# Altium footprint library switch.PcbLib: 36 footprints (part 2 of 3)
Each footprint in its own frame and in the unit in brackets; x right, y up, seen from the top. Pads: shape width x height; smd on the part's side, far side on the other; paste and mask are expansions set on the pad; w line width, h text height; cw(c..) or ccw(c..) is an arc to the next point about the centre after c.
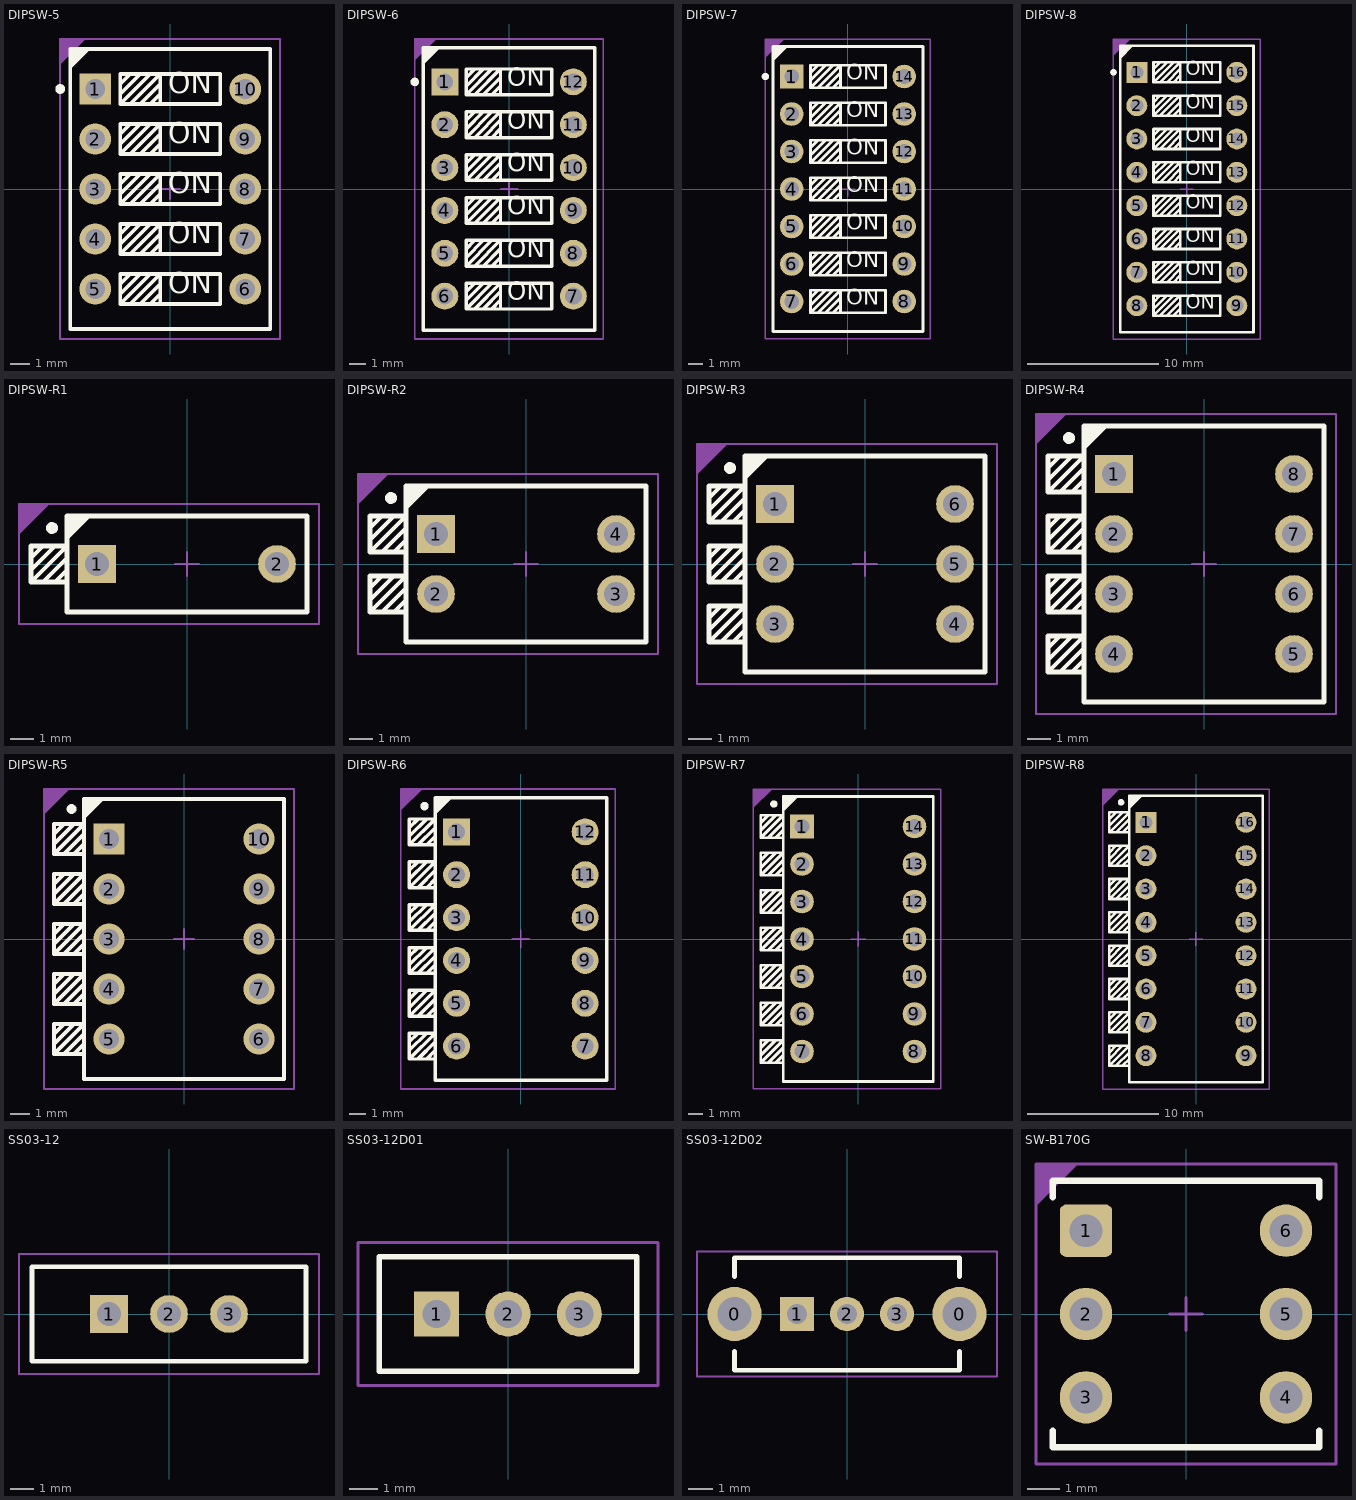
[diagram p1: the footprints below, top view; thin cyan lines are the x and y axes]

## DIPSW-5 [mm]
pads (10):
  rect 1.6x1.6 hole 1: 1(-3.81,5.08)
  round 1.6 hole 1: 2(-3.81,2.54) 3(-3.81,0) 4(-3.81,-2.54) 5(-3.81,-5.08) 6(3.81,-5.08) 7(3.81,-2.54) 8(3.81,0) 9(3.81,2.54) 10(3.81,5.08)
Top Overlay:
  circle w0.25: c-5.588,5.08 r0.125
  region: -5.08,6.096 -5.08,7.112 -4.064,7.112
  lines w0.2: -2.54,-5.334 -1.524,-4.318 ; -2.54,-4.826 -2.032,-4.318 ; -2.54,-2.794 -1.524,-1.778 ; -2.54,-2.286 -2.032,-1.778 ; -2.54,-0.254 -1.524,0.762 ; -2.54,0.254 -2.032,0.762 ; -2.54,2.286 -1.524,3.302 ; -2.54,2.794 -2.032,3.302 ; -2.54,4.826 -1.524,5.842 ; -2.54,5.334 -2.032,5.842 ; -2.032,-5.842 -0.508,-4.318 -0.508,-5.842 ; -2.032,-3.302 -0.508,-1.778 -0.508,-3.302 ; -2.032,-0.762 -0.508,0.762 -0.508,-0.762 ; -2.032,1.778 -0.508,3.302 -0.508,1.778 ; -2.032,4.318 -0.508,5.842 -0.508,4.318 ; -1.524,-5.842 -0.508,-4.826 ; -1.524,-3.302 -0.508,-2.286 ; -1.524,-0.762 -0.508,0.254 ; -1.524,1.778 -0.508,2.794 ; -1.524,4.318 -0.508,5.334 ; -1.016,-5.842 -0.508,-5.334 ; -1.016,-4.318 -2.54,-5.842 ; -1.016,-3.302 -0.508,-2.794 ; -1.016,-1.778 -2.54,-3.302 ; -1.016,-0.762 -0.508,-0.254 ; -1.016,0.762 -2.54,-0.762 ; -1.016,1.778 -0.508,2.286 ; -1.016,3.302 -2.54,1.778 ; -1.016,4.318 -0.508,4.826 ; -1.016,5.842 -2.54,4.318 ; -2.54,-5.842 -2.54,-4.318 2.54,-4.318 2.54,-5.842 -2.54,-5.842 ; -2.54,-3.302 -2.54,-1.778 2.54,-1.778 2.54,-3.302 -2.54,-3.302 ; -2.54,-0.762 -2.54,0.762 2.54,0.762 2.54,-0.762 -2.54,-0.762 ; -2.54,1.778 -2.54,3.302 2.54,3.302 2.54,1.778 -2.54,1.778 ; -2.54,4.318 -2.54,5.842 2.54,5.842 2.54,4.318 -2.54,4.318 ; -5.08,-7.112 5.08,-7.112 5.08,7.112 -5.08,7.112 -5.08,-7.112
  text "ON" at -0.098,4.5 h1.8
  text "ON" at -0.098,1.96 h1.8
  text "ON" at -0.098,-0.58 h1.8
  text "ON" at -0.098,-3.12 h1.8
  text "ON" at -0.098,-5.66 h1.8
Mechanical 13:
  region: -5.588,7.62 -5.588,6.35 -4.318,7.62
  lines w0.1: -5.588,-7.62 5.588,-7.62 5.588,7.62 -5.588,7.62 -5.588,-7.62
  text ".Designator" at -3.23,-0.92 h2
Mechanical 15:
  lines w0.05: -5.588,-7.62 5.588,-7.62 5.588,7.62 -5.588,7.62 -5.588,-7.62
  lines w0.1: -0.5,0 0.5,0 ; 0,-0.5 0,0.5
3D body: height 7, standoff 6, extent -2.54,4.318 -0.508,5.842
3D body: height 7, standoff 6, extent -2.54,1.778 -0.508,3.302
3D body: height 7, standoff 6, extent -2.54,-0.762 -0.508,0.762
3D body: height 7, standoff 6, extent -2.54,-3.302 -0.508,-1.778
3D body: height 7, standoff 6, extent -2.54,-5.842 -0.508,-4.318
3D body: height 6, standoff 0.5, extent -5.08,-7.112 5.08,7.112

## DIPSW-6 [mm]
pads (12):
  rect 1.6x1.6 hole 1: 1(-3.81,6.35)
  round 1.6 hole 1: 2(-3.81,3.81) 3(-3.81,1.27) 4(-3.81,-1.27) 5(-3.81,-3.81) 6(-3.81,-6.35) 7(3.81,-6.35) 8(3.81,-3.81) 9(3.81,-1.27) 10(3.81,1.27) 11(3.81,3.81) 12(3.81,6.35)
Top Overlay:
  circle w0.25: c-5.588,6.35 r0.125
  region: -5.08,7.366 -5.08,8.382 -4.064,8.382
  lines w0.2: -2.54,-6.604 -1.524,-5.588 ; -2.54,-6.096 -2.032,-5.588 ; -2.54,-4.064 -1.524,-3.048 ; -2.54,-3.556 -2.032,-3.048 ; -2.54,-1.524 -1.524,-0.508 ; -2.54,-1.016 -2.032,-0.508 ; -2.54,1.016 -1.524,2.032 ; -2.54,1.524 -2.032,2.032 ; -2.54,3.556 -1.524,4.572 ; -2.54,4.064 -2.032,4.572 ; -2.54,6.096 -1.524,7.112 ; -2.54,6.604 -2.032,7.112 ; -2.032,-7.112 -0.508,-5.588 -0.508,-7.112 ; -2.032,-4.572 -0.508,-3.048 -0.508,-4.572 ; -2.032,-2.032 -0.508,-0.508 -0.508,-2.032 ; -2.032,0.508 -0.508,2.032 -0.508,0.508 ; -2.032,3.048 -0.508,4.572 -0.508,3.048 ; -2.032,5.588 -0.508,7.112 -0.508,5.588 ; -1.524,-7.112 -0.508,-6.096 ; -1.524,-4.572 -0.508,-3.556 ; -1.524,-2.032 -0.508,-1.016 ; -1.524,0.508 -0.508,1.524 ; -1.524,3.048 -0.508,4.064 ; -1.524,5.588 -0.508,6.604 ; -1.016,-7.112 -0.508,-6.604 ; -1.016,-5.588 -2.54,-7.112 ; -1.016,-4.572 -0.508,-4.064 ; -1.016,-3.048 -2.54,-4.572 ; -1.016,-2.032 -0.508,-1.524 ; -1.016,-0.508 -2.54,-2.032 ; -1.016,0.508 -0.508,1.016 ; -1.016,2.032 -2.54,0.508 ; -1.016,3.048 -0.508,3.556 ; -1.016,4.572 -2.54,3.048 ; -1.016,5.588 -0.508,6.096 ; -1.016,7.112 -2.54,5.588 ; -2.54,-7.112 -2.54,-5.588 2.54,-5.588 2.54,-7.112 -2.54,-7.112 ; -2.54,-4.572 -2.54,-3.048 2.54,-3.048 2.54,-4.572 -2.54,-4.572 ; -2.54,-2.032 -2.54,-0.508 2.54,-0.508 2.54,-2.032 -2.54,-2.032 ; -2.54,0.508 -2.54,2.032 2.54,2.032 2.54,0.508 -2.54,0.508 ; -2.54,3.048 -2.54,4.572 2.54,4.572 2.54,3.048 -2.54,3.048 ; -2.54,5.588 -2.54,7.112 2.54,7.112 2.54,5.588 -2.54,5.588 ; -5.08,-8.382 5.08,-8.382 5.08,8.382 -5.08,8.382 -5.08,-8.382
  text "ON" at -0.098,5.77 h1.8
  text "ON" at -0.098,3.23 h1.8
  text "ON" at -0.098,0.69 h1.8
  text "ON" at -0.098,-1.85 h1.8
  text "ON" at -0.098,-4.39 h1.8
  text "ON" at -0.098,-6.93 h1.8
Mechanical 13:
  region: -5.588,8.89 -5.588,7.62 -4.318,8.89
  lines w0.1: -5.588,-8.89 5.588,-8.89 5.588,8.89 -5.588,8.89 -5.588,-8.89
  text ".Designator" at -3.3,-0.95 h2
Mechanical 15:
  lines w0.05: -5.588,-8.89 5.588,-8.89 5.588,8.89 -5.588,8.89 -5.588,-8.89
  lines w0.1: -0.5,0 0.5,0 ; 0,-0.5 0,0.5
3D body: height 7, standoff 6, extent -2.54,5.588 -0.508,7.112
3D body: height 7, standoff 6, extent -2.54,3.048 -0.508,4.572
3D body: height 7, standoff 6, extent -2.54,0.508 -0.508,2.032
3D body: height 7, standoff 6, extent -2.54,-2.032 -0.508,-0.508
3D body: height 7, standoff 6, extent -2.54,-4.572 -0.508,-3.048
3D body: height 7, standoff 6, extent -2.54,-7.112 -0.508,-5.588
3D body: height 6, standoff 0.5, extent -5.08,-8.382 5.08,8.382

## DIPSW-7 [mm]
pads (14):
  rect 1.6x1.6 hole 1: 1(-3.81,7.62)
  round 1.6 hole 1: 2(-3.81,5.08) 3(-3.81,2.54) 4(-3.81,0) 5(-3.81,-2.54) 6(-3.81,-5.08) 7(-3.81,-7.62) 8(3.81,-7.62) 9(3.81,-5.08) 10(3.81,-2.54) 11(3.81,0) 12(3.81,2.54) 13(3.81,5.08) 14(3.81,7.62)
Top Overlay:
  circle w0.25: c-5.588,7.62 r0.125
  region: -5.08,8.636 -5.08,9.652 -4.064,9.652
  lines w0.2: -2.54,-7.874 -1.524,-6.858 ; -2.54,-7.366 -2.032,-6.858 ; -2.54,-5.334 -1.524,-4.318 ; -2.54,-4.826 -2.032,-4.318 ; -2.54,-2.794 -1.524,-1.778 ; -2.54,-2.286 -2.032,-1.778 ; -2.54,-0.254 -1.524,0.762 ; -2.54,0.254 -2.032,0.762 ; -2.54,2.286 -1.524,3.302 ; -2.54,2.794 -2.032,3.302 ; -2.54,4.826 -1.524,5.842 ; -2.54,5.334 -2.032,5.842 ; -2.54,7.366 -1.524,8.382 ; -2.54,7.874 -2.032,8.382 ; -2.032,-8.382 -0.508,-6.858 -0.508,-8.382 ; -2.032,-5.842 -0.508,-4.318 -0.508,-5.842 ; -2.032,-3.302 -0.508,-1.778 -0.508,-3.302 ; -2.032,-0.762 -0.508,0.762 -0.508,-0.762 ; -2.032,1.778 -0.508,3.302 -0.508,1.778 ; -2.032,4.318 -0.508,5.842 -0.508,4.318 ; -2.032,6.858 -0.508,8.382 -0.508,6.858 ; -1.524,-8.382 -0.508,-7.366 ; -1.524,-5.842 -0.508,-4.826 ; -1.524,-3.302 -0.508,-2.286 ; -1.524,-0.762 -0.508,0.254 ; -1.524,1.778 -0.508,2.794 ; -1.524,4.318 -0.508,5.334 ; -1.524,6.858 -0.508,7.874 ; -1.016,-8.382 -0.508,-7.874 ; -1.016,-6.858 -2.54,-8.382 ; -1.016,-5.842 -0.508,-5.334 ; -1.016,-4.318 -2.54,-5.842 ; -1.016,-3.302 -0.508,-2.794 ; -1.016,-1.778 -2.54,-3.302 ; -1.016,-0.762 -0.508,-0.254 ; -1.016,0.762 -2.54,-0.762 ; -1.016,1.778 -0.508,2.286 ; -1.016,3.302 -2.54,1.778 ; -1.016,4.318 -0.508,4.826 ; -1.016,5.842 -2.54,4.318 ; -1.016,6.858 -0.508,7.366 ; -1.016,8.382 -2.54,6.858 ; -2.54,-8.382 2.54,-8.382 2.54,-6.858 -2.54,-6.858 -2.54,-8.382 ; -2.54,-5.842 2.54,-5.842 2.54,-4.318 -2.54,-4.318 -2.54,-5.842 ; -2.54,-3.302 2.54,-3.302 2.54,-1.778 -2.54,-1.778 -2.54,-3.302 ; -2.54,-0.762 2.54,-0.762 2.54,0.762 -2.54,0.762 -2.54,-0.762 ; -2.54,1.778 2.54,1.778 2.54,3.302 -2.54,3.302 -2.54,1.778 ; -2.54,4.318 2.54,4.318 2.54,5.842 -2.54,5.842 -2.54,4.318 ; -2.54,6.858 2.54,6.858 2.54,8.382 -2.54,8.382 -2.54,6.858 ; -5.08,-9.652 -5.08,9.652 5.08,9.652 5.08,-9.652 -5.08,-9.652
  text "ON" at -0.098,-8.2 h1.8
  text "ON" at -0.098,-5.66 h1.8
  text "ON" at -0.098,-3.12 h1.8
  text "ON" at -0.098,-0.58 h1.8
  text "ON" at -0.098,1.96 h1.8
  text "ON" at -0.098,4.5 h1.8
  text "ON" at -0.098,7.04 h1.8
Mechanical 13:
  region: -5.588,10.16 -5.588,8.89 -4.318,10.16
  lines w0.1: -5.588,-10.16 -5.588,10.16 5.588,10.16 5.588,-10.16 -5.588,-10.16
  text ".Designator" at -3.3,-0.94 h2
Mechanical 15:
  lines w0.05: -5.588,-10.16 -5.588,10.16 5.588,10.16 5.588,-10.16 -5.588,-10.16
  lines w0.1: -0.5,0 0.5,0 ; 0,-0.5 0,0.5
3D body: height 7, standoff 6, extent -2.54,-8.382 -0.508,-6.858
3D body: height 7, standoff 6, extent -2.54,-5.842 -0.508,-4.318
3D body: height 7, standoff 6, extent -2.54,-3.302 -0.508,-1.778
3D body: height 7, standoff 6, extent -2.54,-0.762 -0.508,0.762
3D body: height 7, standoff 6, extent -2.54,1.778 -0.508,3.302
3D body: height 7, standoff 6, extent -2.54,4.318 -0.508,5.842
3D body: height 7, standoff 6, extent -2.54,6.858 -0.508,8.382
3D body: height 6, standoff 0.5, extent -5.08,-9.652 5.08,9.652

## DIPSW-8 [mm]
pads (16):
  rect 1.6x1.6 hole 1: 1(-3.81,8.89)
  round 1.6 hole 1: 2(-3.81,6.35) 3(-3.81,3.81) 4(-3.81,1.27) 5(-3.81,-1.27) 6(-3.81,-3.81) 7(-3.81,-6.35) 8(-3.81,-8.89) 9(3.81,-8.89) 10(3.81,-6.35) 11(3.81,-3.81) 12(3.81,-1.27) 13(3.81,1.27) 14(3.81,3.81) 15(3.81,6.35) 16(3.81,8.89)
Top Overlay:
  circle w0.25: c-5.588,8.89 r0.125
  region: -5.08,9.906 -5.08,10.922 -4.064,10.922
  lines w0.2: -2.54,-9.144 -1.524,-8.128 ; -2.54,-8.636 -2.032,-8.128 ; -2.54,-6.604 -1.524,-5.588 ; -2.54,-6.096 -2.032,-5.588 ; -2.54,-4.064 -1.524,-3.048 ; -2.54,-3.556 -2.032,-3.048 ; -2.54,-1.524 -1.524,-0.508 ; -2.54,-1.016 -2.032,-0.508 ; -2.54,1.016 -1.524,2.032 ; -2.54,1.524 -2.032,2.032 ; -2.54,3.556 -1.524,4.572 ; -2.54,4.064 -2.032,4.572 ; -2.54,6.096 -1.524,7.112 ; -2.54,6.604 -2.032,7.112 ; -2.54,8.636 -1.524,9.652 ; -2.54,9.144 -2.032,9.652 ; -2.032,-9.652 -0.508,-8.128 -0.508,-9.652 ; -2.032,-7.112 -0.508,-5.588 -0.508,-7.112 ; -2.032,-4.572 -0.508,-3.048 -0.508,-4.572 ; -2.032,-2.032 -0.508,-0.508 -0.508,-2.032 ; -2.032,0.508 -0.508,2.032 -0.508,0.508 ; -2.032,3.048 -0.508,4.572 -0.508,3.048 ; -2.032,5.588 -0.508,7.112 -0.508,5.588 ; -2.032,8.128 -0.508,9.652 -0.508,8.128 ; -1.524,-9.652 -0.508,-8.636 ; -1.524,-7.112 -0.508,-6.096 ; -1.524,-4.572 -0.508,-3.556 ; -1.524,-2.032 -0.508,-1.016 ; -1.524,0.508 -0.508,1.524 ; -1.524,3.048 -0.508,4.064 ; -1.524,5.588 -0.508,6.604 ; -1.524,8.128 -0.508,9.144 ; -1.016,-9.652 -0.508,-9.144 ; -1.016,-8.128 -2.54,-9.652 ; -1.016,-7.112 -0.508,-6.604 ; -1.016,-5.588 -2.54,-7.112 ; -1.016,-4.572 -0.508,-4.064 ; -1.016,-3.048 -2.54,-4.572 ; -1.016,-2.032 -0.508,-1.524 ; -1.016,-0.508 -2.54,-2.032 ; -1.016,0.508 -0.508,1.016 ; -1.016,2.032 -2.54,0.508 ; -1.016,3.048 -0.508,3.556 ; -1.016,4.572 -2.54,3.048 ; -1.016,5.588 -0.508,6.096 ; -1.016,7.112 -2.54,5.588 ; -1.016,8.128 -0.508,8.636 ; -1.016,9.652 -2.54,8.128 ; -2.54,-9.652 -2.54,-8.128 2.54,-8.128 2.54,-9.652 -2.54,-9.652 ; -2.54,-7.112 -2.54,-5.588 2.54,-5.588 2.54,-7.112 -2.54,-7.112 ; -2.54,-4.572 -2.54,-3.048 2.54,-3.048 2.54,-4.572 -2.54,-4.572 ; -2.54,-2.032 -2.54,-0.508 2.54,-0.508 2.54,-2.032 -2.54,-2.032 ; -2.54,0.508 -2.54,2.032 2.54,2.032 2.54,0.508 -2.54,0.508 ; -2.54,3.048 -2.54,4.572 2.54,4.572 2.54,3.048 -2.54,3.048 ; -2.54,5.588 -2.54,7.112 2.54,7.112 2.54,5.588 -2.54,5.588 ; -2.54,8.128 2.54,8.128 2.54,9.652 -2.54,9.652 -2.54,8.128 ; -5.08,-10.922 5.08,-10.922 5.08,10.922 -5.08,10.922 -5.08,-10.922
  text "ON" at -0.098,8.31 h1.8
  text "ON" at -0.098,5.77 h1.8
  text "ON" at -0.098,3.23 h1.8
  text "ON" at -0.098,0.69 h1.8
  text "ON" at -0.098,-1.85 h1.8
  text "ON" at -0.098,-4.39 h1.8
  text "ON" at -0.098,-6.93 h1.8
  text "ON" at -0.098,-9.47 h1.8
Mechanical 13:
  region: -5.588,11.43 -5.588,10.16 -4.318,11.43
  lines w0.1: -5.588,-11.43 5.588,-11.43 5.588,11.43 -5.588,11.43 -5.588,-11.43
  text ".Designator" at -3.34,-0.94 h2
Mechanical 15:
  lines w0.05: -5.588,-11.43 5.588,-11.43 5.588,11.43 -5.588,11.43 -5.588,-11.43
  lines w0.1: -0.5,0 0.5,0 ; 0,-0.5 0,0.5
3D body: height 6, standoff 0.5, extent -5.08,-10.922 5.08,10.922
3D body: height 7, standoff 6, extent -2.54,8.128 -0.508,9.652
3D body: height 7, standoff 6, extent -2.54,5.588 -0.508,7.112
3D body: height 7, standoff 6, extent -2.54,3.048 -0.508,4.572
3D body: height 7, standoff 6, extent -2.54,0.508 -0.508,2.032
3D body: height 7, standoff 6, extent -2.54,-2.032 -0.508,-0.508
3D body: height 7, standoff 6, extent -2.54,-4.572 -0.508,-3.048
3D body: height 7, standoff 6, extent -2.54,-7.112 -0.508,-5.588
3D body: height 7, standoff 6, extent -2.54,-9.652 -0.508,-8.128

## DIPSW-R1 [mm]
pads (2):
  rect 1.6x1.6 hole 1: 1(-3.81,0)
  round 1.6 hole 1: 2(3.81,0)
Top Overlay:
  circle w0.25: c-5.713,1.524 r0.125
  region: -5.08,1.016 -5.08,2.032 -4.064,2.032
  lines w0.2: -6.604,-0.254 -5.588,0.762 ; -6.604,0.254 -6.096,0.762 ; -6.096,-0.762 -5.08,0.254 ; -5.588,-0.762 -5.08,-0.254 ; -5.08,-0.762 -6.604,-0.762 ; -6.604,-0.762 -6.604,0.762 -5.08,0.762 -6.604,-0.762 ; -5.08,-2.032 -5.08,2.032 5.08,2.032 5.08,-2.032 -5.08,-2.032
Mechanical 13:
  region: -7.112,2.54 -7.112,1.27 -5.842,2.54
  lines w0.1: -7.112,-2.54 -7.112,2.54 5.588,2.54 5.588,-2.54 -7.112,-2.54
  text ".Designator" at -3.32,-0.95 h2
Mechanical 15:
  lines w0.05: -7.112,-2.54 -7.112,2.54 5.588,2.54 5.588,-2.54 -7.112,-2.54
  lines w0.1: -0.5,0 0.5,0 ; 0,-0.5 0,0.5
3D body: height 9, standoff 0.5, extent -5.08,-2.032 5.08,2.032
3D body: height 8.5, standoff 7, extent -6.604,-0.762 -5.08,0.762

## DIPSW-R2 [mm]
pads (4):
  rect 1.6x1.6 hole 1: 1(-3.81,1.27)
  round 1.6 hole 1: 2(-3.81,-1.27) 3(3.81,-1.27) 4(3.81,1.27)
Top Overlay:
  circle w0.25: c-5.713,2.794 r0.125
  region: -5.08,2.286 -5.08,3.302 -4.064,3.302
  lines w0.2: -6.604,-1.524 -5.588,-0.508 ; -6.604,-1.016 -6.096,-0.508 ; -6.604,1.016 -5.588,2.032 ; -6.604,1.524 -6.096,2.032 ; -6.096,-2.032 -5.08,-1.016 ; -6.096,0.508 -5.08,1.524 ; -5.588,-2.032 -5.08,-1.524 ; -5.588,0.508 -5.08,1.016 ; -5.08,-2.032 -6.604,-2.032 ; -5.08,0.508 -6.604,0.508 ; -6.604,-2.032 -6.604,-0.508 -5.08,-0.508 -6.604,-2.032 ; -6.604,0.508 -6.604,2.032 -5.08,2.032 -6.604,0.508 ; -5.08,-3.302 5.08,-3.302 5.08,3.302 -5.08,3.302 -5.08,-3.302
Mechanical 13:
  region: -7.112,3.81 -7.112,2.54 -5.842,3.81
  lines w0.1: -7.112,-3.81 5.588,-3.81 5.588,3.81 -7.112,3.81 -7.112,-3.81
  text ".Designator" at -3.25,-0.95 h2
Mechanical 15:
  lines w0.05: -7.112,-3.81 5.588,-3.81 5.588,3.81 -7.112,3.81 -7.112,-3.81
  lines w0.1: -0.5,0 0.5,0 ; 0,-0.5 0,0.5
3D body: height 9, standoff 0.5, extent -5.08,-3.302 5.08,3.302
3D body: height 8.5, standoff 7, extent -6.604,-2.032 -5.08,-0.508
3D body: height 8.5, standoff 7, extent -6.604,0.508 -5.08,2.032

## DIPSW-R3 [mm]
pads (6):
  rect 1.6x1.6 hole 1: 1(-3.81,2.54)
  round 1.6 hole 1: 2(-3.81,0) 3(-3.81,-2.54) 4(3.81,-2.54) 5(3.81,0) 6(3.81,2.54)
Top Overlay:
  circle w0.25: c-5.713,4.064 r0.125
  region: -5.08,3.556 -5.08,4.572 -4.064,4.572
  lines w0.2: -6.604,-2.794 -5.588,-1.778 ; -6.604,-2.286 -6.096,-1.778 ; -6.604,-0.254 -5.588,0.762 ; -6.604,0.254 -6.096,0.762 ; -6.604,2.286 -5.588,3.302 ; -6.604,2.794 -6.096,3.302 ; -6.096,-3.302 -5.08,-2.286 ; -6.096,-0.762 -5.08,0.254 ; -6.096,1.778 -5.08,2.794 ; -5.588,-3.302 -5.08,-2.794 ; -5.588,-0.762 -5.08,-0.254 ; -5.588,1.778 -5.08,2.286 ; -5.08,-3.302 -6.604,-3.302 ; -5.08,-0.762 -6.604,-0.762 ; -5.08,1.778 -6.604,1.778 ; -6.604,-3.302 -6.604,-1.778 -5.08,-1.778 -6.604,-3.302 ; -6.604,-0.762 -6.604,0.762 -5.08,0.762 -6.604,-0.762 ; -6.604,1.778 -6.604,3.302 -5.08,3.302 -6.604,1.778 ; -5.08,-4.572 -5.08,4.572 5.08,4.572 5.08,-4.572 -5.08,-4.572
Mechanical 13:
  region: -7.112,5.08 -7.112,3.81 -5.842,5.08
  lines w0.1: -7.112,-5.08 -7.112,5.08 5.588,5.08 5.588,-5.08 -7.112,-5.08
  text ".Designator" at -3.25,-0.96 h2
Mechanical 15:
  lines w0.05: -7.112,-5.08 -7.112,5.08 5.588,5.08 5.588,-5.08 -7.112,-5.08
  lines w0.1: -0.5,0 0.5,0 ; 0,-0.5 0,0.5
3D body: height 9, standoff 0.5, extent -5.08,-4.572 5.08,4.572
3D body: height 8.5, standoff 7, extent -6.604,-3.302 -5.08,-1.778
3D body: height 8.5, standoff 7, extent -6.604,-0.762 -5.08,0.762
3D body: height 8.5, standoff 7, extent -6.604,1.778 -5.08,3.302

## DIPSW-R4 [mm]
pads (8):
  rect 1.6x1.6 hole 1: 1(-3.81,3.81)
  round 1.6 hole 1: 2(-3.81,1.27) 3(-3.81,-1.27) 4(-3.81,-3.81) 5(3.81,-3.81) 6(3.81,-1.27) 7(3.81,1.27) 8(3.81,3.81)
Top Overlay:
  circle w0.25: c-5.713,5.334 r0.125
  region: -5.08,4.826 -5.08,5.842 -4.064,5.842
  lines w0.2: -6.604,-4.064 -5.588,-3.048 ; -6.604,-3.556 -6.096,-3.048 ; -6.604,-1.524 -5.588,-0.508 ; -6.604,-1.016 -6.096,-0.508 ; -6.604,1.016 -5.588,2.032 ; -6.604,1.524 -6.096,2.032 ; -6.604,3.556 -5.588,4.572 ; -6.604,4.064 -6.096,4.572 ; -6.096,-4.572 -5.08,-3.556 ; -6.096,-2.032 -5.08,-1.016 ; -6.096,0.508 -5.08,1.524 ; -6.096,3.048 -5.08,4.064 ; -5.588,-4.572 -5.08,-4.064 ; -5.588,-2.032 -5.08,-1.524 ; -5.588,0.508 -5.08,1.016 ; -5.588,3.048 -5.08,3.556 ; -5.08,-4.572 -6.604,-4.572 ; -5.08,-2.032 -6.604,-2.032 ; -5.08,0.508 -6.604,0.508 ; -5.08,3.048 -6.604,3.048 ; -6.604,-4.572 -5.08,-3.048 -6.604,-3.048 -6.604,-4.572 ; -6.604,-2.032 -5.08,-0.508 -6.604,-0.508 -6.604,-2.032 ; -6.604,0.508 -5.08,2.032 -6.604,2.032 -6.604,0.508 ; -6.604,3.048 -5.08,4.572 -6.604,4.572 -6.604,3.048 ; -5.08,-5.842 -5.08,5.842 5.08,5.842 5.08,-5.842 -5.08,-5.842
Mechanical 13:
  region: -7.112,6.35 -7.112,5.08 -5.842,6.35
  lines w0.1: -7.112,-6.35 -7.112,6.35 5.588,6.35 5.588,-6.35 -7.112,-6.35
  text ".Designator" at -3.23,-0.95 h2
Mechanical 15:
  lines w0.05: -7.112,-6.35 -7.112,6.35 5.588,6.35 5.588,-6.35 -7.112,-6.35
  lines w0.1: -0.5,0 0.5,0 ; 0,-0.5 0,0.5
3D body: height 9, standoff 0.5, extent -5.08,-5.842 5.08,5.842
3D body: height 8.5, standoff 7, extent -6.604,3.048 -5.08,4.572
3D body: height 8.5, standoff 7, extent -6.604,0.508 -5.08,2.032
3D body: height 8.5, standoff 7, extent -6.604,-2.032 -5.08,-0.508
3D body: height 8.5, standoff 7, extent -6.604,-4.572 -5.08,-3.048

## DIPSW-R5 [mm]
pads (10):
  rect 1.6x1.6 hole 1: 1(-3.81,5.08)
  round 1.6 hole 1: 2(-3.81,2.54) 3(-3.81,0) 4(-3.81,-2.54) 5(-3.81,-5.08) 6(3.81,-5.08) 7(3.81,-2.54) 8(3.81,0) 9(3.81,2.54) 10(3.81,5.08)
Top Overlay:
  circle w0.25: c-5.713,6.604 r0.125
  region: -5.08,6.096 -5.08,7.112 -4.064,7.112
  lines w0.2: -6.604,-5.334 -5.588,-4.318 ; -6.604,-4.826 -6.096,-4.318 ; -6.604,-2.794 -5.588,-1.778 ; -6.604,-2.286 -6.096,-1.778 ; -6.604,-0.254 -5.588,0.762 ; -6.604,0.254 -6.096,0.762 ; -6.604,2.286 -5.588,3.302 ; -6.604,2.794 -6.096,3.302 ; -6.604,4.826 -5.588,5.842 ; -6.604,5.334 -6.096,5.842 ; -6.096,-5.842 -5.08,-4.826 ; -6.096,-3.302 -5.08,-2.286 ; -6.096,-0.762 -5.08,0.254 ; -6.096,1.778 -5.08,2.794 ; -6.096,4.318 -5.08,5.334 ; -5.588,-5.842 -5.08,-5.334 ; -5.588,-3.302 -5.08,-2.794 ; -5.588,-0.762 -5.08,-0.254 ; -5.588,1.778 -5.08,2.286 ; -5.588,4.318 -5.08,4.826 ; -5.08,-5.842 -6.604,-5.842 ; -5.08,-3.302 -6.604,-3.302 ; -5.08,-0.762 -6.604,-0.762 ; -5.08,1.778 -6.604,1.778 ; -5.08,4.318 -6.604,4.318 ; -6.604,-5.842 -6.604,-4.318 -5.08,-4.318 -6.604,-5.842 ; -6.604,-3.302 -6.604,-1.778 -5.08,-1.778 -6.604,-3.302 ; -6.604,-0.762 -6.604,0.762 -5.08,0.762 -6.604,-0.762 ; -6.604,1.778 -6.604,3.302 -5.08,3.302 -6.604,1.778 ; -6.604,4.318 -6.604,5.842 -5.08,5.842 -6.604,4.318 ; -5.08,-7.112 -5.08,7.112 5.08,7.112 5.08,-7.112 -5.08,-7.112
Mechanical 13:
  region: -7.112,7.62 -7.112,6.35 -5.842,7.62
  lines w0.1: -7.112,-7.62 -7.112,7.62 5.588,7.62 5.588,-7.62 -7.112,-7.62
  text ".Designator" at -3.24,-0.96 h2
Mechanical 15:
  lines w0.05: -7.112,-7.62 -7.112,7.62 5.588,7.62 5.588,-7.62 -7.112,-7.62
  lines w0.1: -0.5,0 0.5,0 ; 0,-0.5 0,0.5
3D body: height 8.5, standoff 7, extent -6.604,-5.842 -5.08,-4.318
3D body: height 8.5, standoff 7, extent -6.604,-3.302 -5.08,-1.778
3D body: height 8.5, standoff 7, extent -6.604,-0.762 -5.08,0.762
3D body: height 8.5, standoff 7, extent -6.604,1.778 -5.08,3.302
3D body: height 8.5, standoff 7, extent -6.604,4.318 -5.08,5.842
3D body: height 9, standoff 0.5, extent -5.08,-7.112 5.08,7.112

## DIPSW-R6 [mm]
pads (12):
  rect 1.6x1.6 hole 1: 1(-3.81,6.35)
  round 1.6 hole 1: 2(-3.81,3.81) 3(-3.81,1.27) 4(-3.81,-1.27) 5(-3.81,-3.81) 6(-3.81,-6.35) 7(3.81,-6.35) 8(3.81,-3.81) 9(3.81,-1.27) 10(3.81,1.27) 11(3.81,3.81) 12(3.81,6.35)
Top Overlay:
  circle w0.25: c-5.713,7.874 r0.125
  region: -5.08,7.366 -5.08,8.382 -4.064,8.382
  lines w0.2: -6.604,-6.604 -5.588,-5.588 ; -6.604,-6.096 -6.096,-5.588 ; -6.604,-4.064 -5.588,-3.048 ; -6.604,-3.556 -6.096,-3.048 ; -6.604,-1.524 -5.588,-0.508 ; -6.604,-1.016 -6.096,-0.508 ; -6.604,1.016 -5.588,2.032 ; -6.604,1.524 -6.096,2.032 ; -6.604,3.556 -5.588,4.572 ; -6.604,4.064 -6.096,4.572 ; -6.604,6.096 -5.588,7.112 ; -6.604,6.604 -6.096,7.112 ; -6.096,-7.112 -5.08,-6.096 ; -6.096,-4.572 -5.08,-3.556 ; -6.096,-2.032 -5.08,-1.016 ; -6.096,0.508 -5.08,1.524 ; -6.096,3.048 -5.08,4.064 ; -6.096,5.588 -5.08,6.604 ; -5.588,-7.112 -5.08,-6.604 ; -5.588,-4.572 -5.08,-4.064 ; -5.588,-2.032 -5.08,-1.524 ; -5.588,0.508 -5.08,1.016 ; -5.588,3.048 -5.08,3.556 ; -5.588,5.588 -5.08,6.096 ; -5.08,-7.112 -6.604,-7.112 ; -5.08,-4.572 -6.604,-4.572 ; -5.08,-2.032 -6.604,-2.032 ; -5.08,0.508 -6.604,0.508 ; -5.08,3.048 -6.604,3.048 ; -5.08,5.588 -6.604,5.588 ; -6.604,-7.112 -5.08,-5.588 -6.604,-5.588 -6.604,-7.112 ; -6.604,-4.572 -5.08,-3.048 -6.604,-3.048 -6.604,-4.572 ; -6.604,-2.032 -5.08,-0.508 -6.604,-0.508 -6.604,-2.032 ; -6.604,0.508 -5.08,2.032 -6.604,2.032 -6.604,0.508 ; -6.604,3.048 -5.08,4.572 -6.604,4.572 -6.604,3.048 ; -6.604,5.588 -5.08,7.112 -6.604,7.112 -6.604,5.588 ; -5.08,-8.382 5.08,-8.382 5.08,8.382 -5.08,8.382 -5.08,-8.382
Mechanical 13:
  region: -7.112,8.89 -7.112,7.62 -5.842,8.89
  lines w0.1: -7.112,-8.89 5.588,-8.89 5.588,8.89 -7.112,8.89 -7.112,-8.89
  text ".Designator" at -3.23,-0.96 h2
Mechanical 15:
  lines w0.05: -7.112,-8.89 5.588,-8.89 5.588,8.89 -7.112,8.89 -7.112,-8.89
  lines w0.1: -0.5,0 0.5,0 ; 0,-0.5 0,0.5
3D body: height 9, standoff 0.5, extent -5.08,-8.382 5.08,8.382
3D body: height 8.5, standoff 7, extent -6.604,5.588 -5.08,7.112
3D body: height 8.5, standoff 7, extent -6.604,3.048 -5.08,4.572
3D body: height 8.5, standoff 7, extent -6.604,0.508 -5.08,2.032
3D body: height 8.5, standoff 7, extent -6.604,-2.032 -5.08,-0.508
3D body: height 8.5, standoff 7, extent -6.604,-4.572 -5.08,-3.048
3D body: height 8.5, standoff 7, extent -6.604,-7.112 -5.08,-5.588

## DIPSW-R7 [mm]
pads (14):
  rect 1.6x1.6 hole 1: 1(-3.81,7.62)
  round 1.6 hole 1: 2(-3.81,5.08) 3(-3.81,2.54) 4(-3.81,0) 5(-3.81,-2.54) 6(-3.81,-5.08) 7(-3.81,-7.62) 8(3.81,-7.62) 9(3.81,-5.08) 10(3.81,-2.54) 11(3.81,0) 12(3.81,2.54) 13(3.81,5.08) 14(3.81,7.62)
Top Overlay:
  circle w0.25: c-5.713,9.144 r0.125
  region: -5.08,8.636 -5.08,9.652 -4.064,9.652
  lines w0.2: -6.604,-7.874 -5.588,-6.858 ; -6.604,-7.366 -6.096,-6.858 ; -6.604,-5.334 -5.588,-4.318 ; -6.604,-4.826 -6.096,-4.318 ; -6.604,-2.794 -5.588,-1.778 ; -6.604,-2.286 -6.096,-1.778 ; -6.604,-0.254 -5.588,0.762 ; -6.604,0.254 -6.096,0.762 ; -6.604,2.286 -5.588,3.302 ; -6.604,2.794 -6.096,3.302 ; -6.604,4.826 -5.588,5.842 ; -6.604,5.334 -6.096,5.842 ; -6.604,7.366 -5.588,8.382 ; -6.604,7.874 -6.096,8.382 ; -6.096,-8.382 -5.08,-7.366 ; -6.096,-5.842 -5.08,-4.826 ; -6.096,-3.302 -5.08,-2.286 ; -6.096,-0.762 -5.08,0.254 ; -6.096,1.778 -5.08,2.794 ; -6.096,4.318 -5.08,5.334 ; -6.096,6.858 -5.08,7.874 ; -5.588,-8.382 -5.08,-7.874 ; -5.588,-5.842 -5.08,-5.334 ; -5.588,-3.302 -5.08,-2.794 ; -5.588,-0.762 -5.08,-0.254 ; -5.588,1.778 -5.08,2.286 ; -5.588,4.318 -5.08,4.826 ; -5.588,6.858 -5.08,7.366 ; -5.08,-8.382 -6.604,-8.382 ; -5.08,-5.842 -6.604,-5.842 ; -5.08,-3.302 -6.604,-3.302 ; -5.08,-0.762 -6.604,-0.762 ; -5.08,1.778 -6.604,1.778 ; -5.08,4.318 -6.604,4.318 ; -5.08,6.858 -6.604,6.858 ; -6.604,-8.382 -5.08,-6.858 -6.604,-6.858 -6.604,-8.382 ; -6.604,-5.842 -5.08,-4.318 -6.604,-4.318 -6.604,-5.842 ; -6.604,-3.302 -5.08,-1.778 -6.604,-1.778 -6.604,-3.302 ; -6.604,-0.762 -5.08,0.762 -6.604,0.762 -6.604,-0.762 ; -6.604,1.778 -5.08,3.302 -6.604,3.302 -6.604,1.778 ; -6.604,4.318 -5.08,5.842 -6.604,5.842 -6.604,4.318 ; -6.604,6.858 -5.08,8.382 -6.604,8.382 -6.604,6.858 ; -5.08,-9.652 -5.08,9.652 5.08,9.652 5.08,-9.652 -5.08,-9.652
Mechanical 13:
  region: -7.112,10.16 -7.112,8.89 -5.842,10.16
  lines w0.1: -7.112,-10.16 -7.112,10.16 5.588,10.16 5.588,-10.16 -7.112,-10.16
  text ".Designator" at -3.22,-0.97 h2
Mechanical 15:
  lines w0.05: -7.112,-10.16 -7.112,10.16 5.588,10.16 5.588,-10.16 -7.112,-10.16
  lines w0.1: -0.5,0 0.5,0 ; 0,-0.5 0,0.5
3D body: height 9, standoff 0.5, extent -5.08,-9.652 5.08,9.652
3D body: height 8.5, standoff 7, extent -6.604,6.858 -5.08,8.382
3D body: height 8.5, standoff 7, extent -6.604,4.318 -5.08,5.842
3D body: height 8.5, standoff 7, extent -6.604,1.778 -5.08,3.302
3D body: height 8.5, standoff 7, extent -6.604,-0.762 -5.08,0.762
3D body: height 8.5, standoff 7, extent -6.604,-3.302 -5.08,-1.778
3D body: height 8.5, standoff 7, extent -6.604,-5.842 -5.08,-4.318
3D body: height 8.5, standoff 7, extent -6.604,-8.382 -5.08,-6.858

## DIPSW-R8 [mm]
pads (16):
  rect 1.6x1.6 hole 1: 1(-3.81,8.89)
  round 1.6 hole 1: 2(-3.81,6.35) 3(-3.81,3.81) 4(-3.81,1.27) 5(-3.81,-1.27) 6(-3.81,-3.81) 7(-3.81,-6.35) 8(-3.81,-8.89) 9(3.81,-8.89) 10(3.81,-6.35) 11(3.81,-3.81) 12(3.81,-1.27) 13(3.81,1.27) 14(3.81,3.81) 15(3.81,6.35) 16(3.81,8.89)
Top Overlay:
  circle w0.25: c-5.713,10.414 r0.125
  region: -5.08,9.906 -5.08,10.922 -4.064,10.922
  lines w0.2: -6.604,-9.144 -5.588,-8.128 ; -6.604,-8.636 -6.096,-8.128 ; -6.604,-6.604 -5.588,-5.588 ; -6.604,-6.096 -6.096,-5.588 ; -6.604,-4.064 -5.588,-3.048 ; -6.604,-3.556 -6.096,-3.048 ; -6.604,-1.524 -5.588,-0.508 ; -6.604,-1.016 -6.096,-0.508 ; -6.604,1.016 -5.588,2.032 ; -6.604,1.524 -6.096,2.032 ; -6.604,3.556 -5.588,4.572 ; -6.604,4.064 -6.096,4.572 ; -6.604,6.096 -5.588,7.112 ; -6.604,6.604 -6.096,7.112 ; -6.604,8.636 -5.588,9.652 ; -6.604,9.144 -6.096,9.652 ; -6.096,-9.652 -5.08,-8.636 ; -6.096,-7.112 -5.08,-6.096 ; -6.096,-4.572 -5.08,-3.556 ; -6.096,-2.032 -5.08,-1.016 ; -6.096,0.508 -5.08,1.524 ; -6.096,3.048 -5.08,4.064 ; -6.096,5.588 -5.08,6.604 ; -6.096,8.128 -5.08,9.144 ; -5.588,-9.652 -5.08,-9.144 ; -5.588,-7.112 -5.08,-6.604 ; -5.588,-4.572 -5.08,-4.064 ; -5.588,-2.032 -5.08,-1.524 ; -5.588,0.508 -5.08,1.016 ; -5.588,3.048 -5.08,3.556 ; -5.588,5.588 -5.08,6.096 ; -5.588,8.128 -5.08,8.636 ; -5.08,-9.652 -6.604,-9.652 ; -5.08,-7.112 -6.604,-7.112 ; -5.08,-4.572 -6.604,-4.572 ; -5.08,-2.032 -6.604,-2.032 ; -5.08,0.508 -6.604,0.508 ; -5.08,3.048 -6.604,3.048 ; -5.08,5.588 -6.604,5.588 ; -5.08,8.128 -6.604,8.128 ; -6.604,-9.652 -5.08,-8.128 -6.604,-8.128 -6.604,-9.652 ; -6.604,-7.112 -5.08,-5.588 -6.604,-5.588 -6.604,-7.112 ; -6.604,-4.572 -5.08,-3.048 -6.604,-3.048 -6.604,-4.572 ; -6.604,-2.032 -5.08,-0.508 -6.604,-0.508 -6.604,-2.032 ; -6.604,0.508 -5.08,2.032 -6.604,2.032 -6.604,0.508 ; -6.604,3.048 -5.08,4.572 -6.604,4.572 -6.604,3.048 ; -6.604,5.588 -5.08,7.112 -6.604,7.112 -6.604,5.588 ; -6.604,8.128 -6.604,9.652 -5.08,9.652 -6.604,8.128 ; -5.08,-10.922 -5.08,10.922 5.08,10.922 5.08,-10.922 -5.08,-10.922
Mechanical 13:
  region: -7.112,11.43 -7.112,10.16 -5.842,11.43
  lines w0.1: -7.112,-11.43 -7.112,11.43 5.588,11.43 5.588,-11.43 -7.112,-11.43
  text ".Designator" at -3.19,-0.94 h2
Mechanical 15:
  lines w0.05: -7.112,-11.43 -7.112,11.43 5.588,11.43 5.588,-11.43 -7.112,-11.43
  lines w0.1: -0.5,0 0.5,0 ; 0,-0.5 0,0.5
3D body: height 8.5, standoff 7, extent -6.604,-9.652 -5.08,-8.128
3D body: height 8.5, standoff 7, extent -6.604,-7.112 -5.08,-5.588
3D body: height 8.5, standoff 7, extent -6.604,-4.572 -5.08,-3.048
3D body: height 8.5, standoff 7, extent -6.604,-2.032 -5.08,-0.508
3D body: height 8.5, standoff 7, extent -6.604,0.508 -5.08,2.032
3D body: height 8.5, standoff 7, extent -6.604,3.048 -5.08,4.572
3D body: height 8.5, standoff 7, extent -6.604,5.588 -5.08,7.112
3D body: height 8.5, standoff 7, extent -6.604,8.128 -5.08,9.652
3D body: height 9, standoff 0.5, extent -5.08,-10.922 5.08,10.922

## SS03-12 [mm]
pads (3):
  rect 1.6x1.6 hole 1: 1(-2.54,0)
  round 1.6 hole 1: 2(0,0) 3(2.54,0)
Top Overlay:
  lines w0.2: -5.8,-2 -5.8,2 5.8,2 5.8,-2 -5.8,-2
Mechanical 13:
  lines w0.1: -6.35,-2.54 -6.35,2.54 6.35,2.54 6.35,-2.54 -6.35,-2.54
  text ".Designator" at -3.22,-0.95 h2
Mechanical 15:
  lines w0.05: -6.35,-2.54 6.35,-2.54 6.35,2.54 -6.35,2.54 -6.35,-2.54
  lines w0.1: -0.5,0 0.5,0 ; 0,-0.5 0,0.5
3D body: height 10.5, standoff 6, extent -2.5,-1 0.5,1
3D body: height 6, standoff 0.1, extent -5.8,-2 5.8,2

## SS03-12D01 [mm]
pads (3):
  rect 1.6x1.6 hole 1: 1(-2.54,0)
  round 1.6 hole 1: 2(0,0) 3(2.54,0)
Top Overlay:
  lines w0.2: -4.572,-2.032 -4.572,2.032 4.572,2.032 4.572,-2.032 -4.572,-2.032
Mechanical 13:
  lines w0.1: -5.334,-2.54 -5.334,2.54 5.334,2.54 5.334,-2.54 -5.334,-2.54
  text ".Designator" at -3.22,-0.95 h2
Mechanical 15:
  lines w0.05: -5.334,-2.54 5.334,-2.54 5.334,2.54 -5.334,2.54 -5.334,-2.54
  lines w0.1: -0.5,0 0.5,0 ; 0,-0.5 0,0.5
3D body: height 10.5, standoff 6, extent -2.5,-1 0.5,1
3D body: height 6, standoff 0.1, extent -4.572,-2.032 4.572,2.032

## SS03-12D02 [mm]
pads (5):
  round 2.2 hole 1.4: 0(-4.572,0) 0(4.572,0)
  rect 1.4x1.4 hole 0.8: 1(-2.032,0)
  round 1.4 hole 0.8: 2(0,0) 3(2.032,0)
Top Overlay:
  lines w0.2: -4.572,-1.524 -4.572,-2.286 4.572,-2.286 4.572,-1.524 ; -4.572,1.524 -4.572,2.286 4.572,2.286 4.572,1.524
Mechanical 13:
  lines w0.1: -6.096,-2.54 6.096,-2.54 6.096,2.54 -6.096,2.54 -6.096,-2.54
  text ".Designator" at -3.22,-0.95 h2
Mechanical 15:
  lines w0.05: -6.096,-2.54 -6.096,2.54 6.096,2.54 6.096,-2.54 -6.096,-2.54
  lines w0.1: -0.5,0 0.5,0 ; 0,-0.5 0,0.5
3D body: height 6, standoff 0.1, extent -4.572,-2.286 4.572,2.286
3D body: height 10.5, standoff 6, extent -2.5,-1 0.5,1

## SW-B170G [mm]
pads (6):
  rrect25% 1.6x1.6 hole 1: 1(-3.048,2.54)
  round 1.6 hole 1: 2(-3.048,0) 3(-3.048,-2.54) 4(3.048,-2.54) 5(3.048,0) 6(3.048,2.54)
Top Overlay:
  lines w0.2: -4.064,-3.556 -4.064,-4.064 4.064,-4.064 4.064,-3.556 ; -4.064,3.556 -4.064,4.064 4.064,4.064 4.064,3.556
Mechanical 13:
  region: -4.572,4.572 -4.572,3.302 -3.302,4.572
  lines w0.1: -4.572,-4.572 4.572,-4.572 4.572,4.572 -4.572,4.572 -4.572,-4.572
  text ".Designator" at -3.21,-0.92 h2
Mechanical 15:
  lines w0.05: -4.572,-4.572 4.572,-4.572 4.572,4.572 -4.572,4.572 -4.572,-4.572
  lines w0.1: -0.5,0 0.5,0 ; 0,-0.5 0,0.5
3D body: height 13, standoff 8, extent -2.032,-2.032 2.032,2.032
3D body: height 8, standoff 0.1, extent -4.064,-4.064 4.064,4.064